# EAGLE library part LTC2804-1 (library wearloc)
Linear Technology Dual RS-232 Transceiver Supply range of 1.8V to 5.5V Data Sheet <http://cds.linear.com/docs/en/datasheet/2801234fe.pdf>
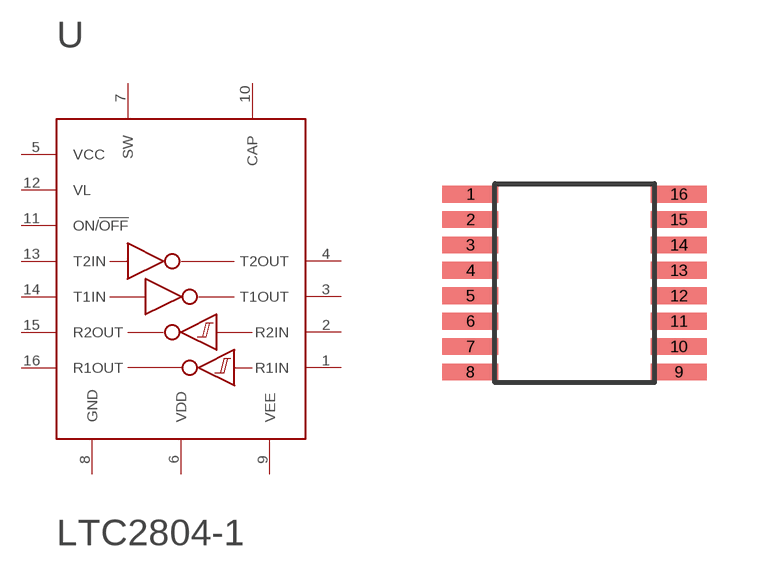
[diagram p1: symbol with the pads of SSOP-16; footprint SSOP-16]

Designator prefix U

## LTC2804-1GN  [SSOP-16]
1  R1IN
2  R2IN
3  T1OUT
4  T2OUT
5  VCC
6  VDD  sup
7  SW
8  GND
9  VEE  sup
10  CAP
11  ON/!OFF
12  VL
13  T2IN
14  T1IN
15  R2OUT
16  R1OUT

## Footprint SSOP-16 (pad centres in mm)
SSOP-16 package from Linear Technology
smd 1.397 x 0.419: 1 -2.603,2.223; 2 -2.603,1.587; 3 -2.603,0.953; 4 -2.603,0.318; 5 -2.603,-0.318; 6 -2.603,-0.953; 7 -2.603,-1.587; 8 -2.603,-2.223; 9 2.603,-2.223; 10 2.603,-1.587; 11 2.603,-0.953; 12 2.603,-0.318; 13 2.603,0.318; 14 2.603,0.953; 15 2.603,1.587; 16 2.603,2.223